# EAGLE library part AS5162 (library hsk_2012)
12-Bit Magnetic Angle Position Sensor, Company: AMS
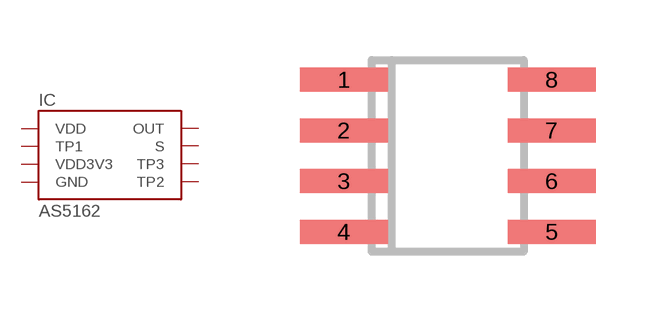
[diagram p50: symbol with the pads of SO8; footprint SO8]

Designator prefix IC

## AS5162  [SO8]
1  VDD
2  TP1
3  VDD3V3
4  GND
5  TP2
6  TP3
7  S
8  OUT

## Footprint SO8 (pad centres in mm)
SMALL OUTLINE INTEGRATED CIRCUIT
smd 2.2 x 0.6: 1 -2.6,1.905; 2 -2.6,0.635; 3 -2.6,-0.635; 4 -2.6,-1.905; 5 2.6,-1.905; 6 2.6,-0.635; 7 2.6,0.635; 8 2.6,1.905